# EAGLE library part INA225 (library MDB_HOME)
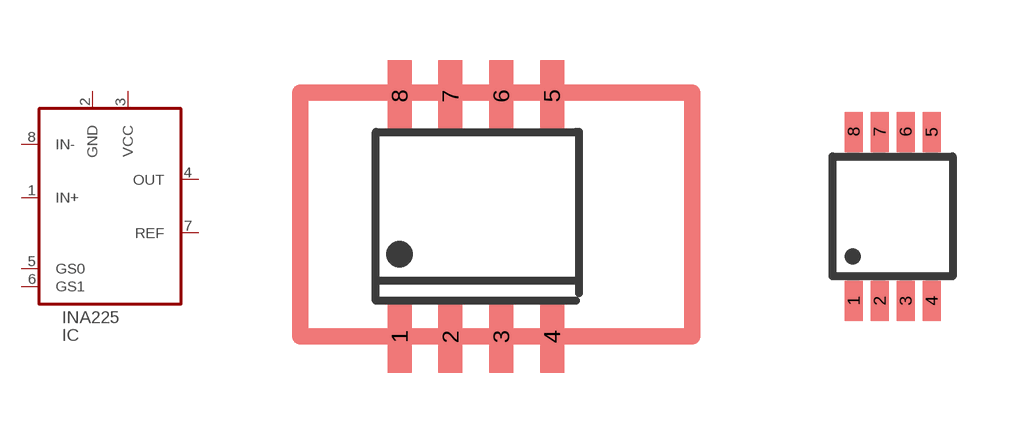
[diagram p35: symbol with the pads of PG-DSO-8_DNU; footprints PG-DSO-8_DNU, MSOP8]

Designator prefix IC

## INA225  [PG-DSO-8_DNU]
1  IN+
2  GND
3  VCC
4  OUT
5  GS0
6  GS1
7  REF
8  IN-

## INA225STD  [MSOP8]
Pads as for PG-DSO-8_DNU

## Footprint PG-DSO-8_DNU (pad centres in mm)
smd 0.6 x 1.8: 1 -1.91,-3.01; 2 -0.64,-3.01; 3 0.63,-3.01; 4 1.9,-3.01; 5 1.9,3.015; 6 0.63,3.015; 7 -0.64,3.015; 8 -1.91,3.015

## Footprint MSOP8 (pad centres in mm)
smd 0.45 x 1: 1 -0.975,-2.115; 2 -0.325,-2.115; 3 0.325,-2.115; 4 0.975,-2.115; 5 0.975,2.115; 6 0.325,2.115; 7 -0.325,2.115; 8 -0.975,2.115